# Altium schematic symbol library arduinoNano.SchLib: 1 symbol
Pins are listed as number, name and electrical type; pins without a type are passive.

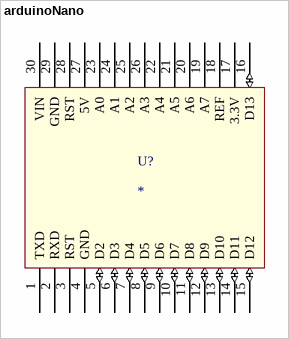
[diagram p0: symbol arduinoNano]

## arduinoNano
designator U?
footprint Arduino nano (arduino nano)
pins: 1 TXD, 2 RXD, 3 RST, 4 GND (power), 5 D2 (io), 6 D3 (io), 7 D4 (io), 8 D5 (io), 9 D6 (io), 10 D7 (io), 11 D8 (io), 12 D9 (io), 13 D10 (io), 14 D11 (io), 15 D12 (io), 16 D13 (io), 17 3.3V (power), 18 REF, 19 A7, 20 A6, 21 A5, 22 A4, 23 A0, 24 A1, 25 A2, 26 A3, 27 5V (power), 28 RST, 29 GND (power), 30 VIN (power)